# EAGLE library part DPM_MDMV (library wheat)
Digital panel meter Red Lion MDMV
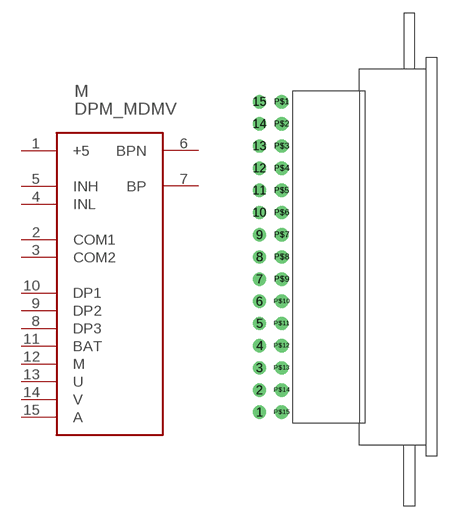
[diagram p115: symbol with the pads of DPM_MDMV; footprint DPM_MDMV]

Designator prefix M

## DPM_MDMV  [DPM_MDMV]
1  +5  pas
2  COM1  pas
3  COM2  pas
4  INL  in
5  INH  in
6  BPN  out
7  BP  out
8  DP3  pas
9  DP2  pas
10  DP1  pas
11  BAT  pas
12  M  pas
13  U  pas
14  V  pas
15  A  pas

## Footprint DPM_MDMV (pad centres in mm)
digital panel meter, red lion MDMV
drill 1.016: 1 -19.05,-17.78; 2 -19.05,-15.24; 3 -19.05,-12.7; 4 -19.05,-10.16; 5 -19.05,-7.62; 6 -19.05,-5.08; 7 -19.05,-2.54; 8 -19.05,0; 9 -19.05,2.54; 10 -19.05,5.08; 11 -19.05,7.62; 12 -19.05,10.16; 13 -19.05,12.7; 14 -19.05,15.24; 15 -19.05,17.78; P$1 -16.51,17.78; P$2 -16.51,15.24; P$3 -16.51,12.7; P$4 -16.51,10.16; P$5 -16.51,7.62; P$6 -16.51,5.08; P$7 -16.51,2.54; P$8 -16.51,0; P$9 -16.51,-2.54; P$10 -16.51,-5.08; P$11 -16.51,-7.62; P$12 -16.51,-10.16; P$13 -16.51,-12.7; P$14 -16.51,-15.24; P$15 -16.51,-17.78